# EAGLE library part 6270XX21621_62702421621 (library con-wurth-board-header)
WR-BHD 1.27 mm Male Box Header KIND PROPERTIES: Pitch 1.27 mm Gender:Male MATERIAL PROPERTIES: Insulator Material Nylon 9T Insulator Flammability Rating UL94 V-0 Insulator Color Black Contact Material Brass Contact Plating Gold over Nickel GENERAL INFORMATION: Operating Temperature -40 up to +105 °C Working Voltage 50 V (AC) Withstanding Voltage 500 V (AC) Contact Resistance 20 mΩ RISO 1000 MΩ CERTIFICATION: UL Approval E323964 <https://www.we-online.com/catalog/media/o375404v209%20Family_WR-BHD_6270xx21621.jpg> Details see: https://www.we-online.com/catalog/en/WR_BHD_1_27_MM_MALE_BOX_HEADER Created by Ella Wu 2021-08-24 2021 (C) Würth Elektronik
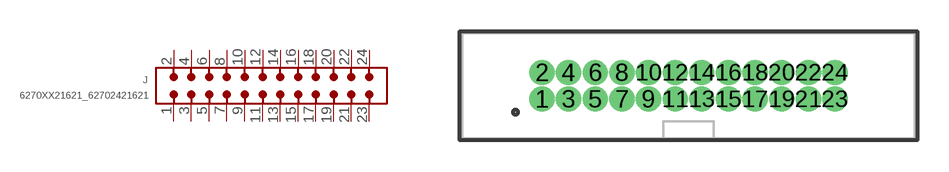
[diagram p207: symbol with the pads of 62702421621; footprint 62702421621]

Designator prefix J

## 6270XX21621_62702421621 (CONTACT-RESISTANCE: 20mOhm; DATASHEET-URL: https://www.we-online.com/redexpert/spec/62702421621?ae; GENDER: Male; IR: 1A; LENGTH: 21.59mm; MOUNT: THT; PART-NUMBER: 62702421621; PINS: 24; PITCH: 1.27mm; TYPE: Straight; VALUE: 62702421621; WORKING-VOLTAGE: 50V(AC))  [62702421621]
1  1  pas
2  2  pas
3  3  pas
4  4  pas
5  5  pas
6  6  pas
7  7  pas
8  8  pas
9  9  pas
10  10  pas
11  11  pas
12  12  pas
13  13  pas
14  14  pas
15  15  pas
16  16  pas
17  17  pas
18  18  pas
19  19  pas
20  20  pas
21  21  pas
22  22  pas
23  23  pas
24  24  pas

## Footprint 62702421621 (pad centres in mm)
WR-BHD 1.27mm Male THT Box Header Straight, 24Pins
drill 0.7 pad 1.05: 1 -6.985,-0.635; 2 -6.985,0.635; 3 -5.715,-0.635; 4 -5.715,0.635; 5 -4.445,-0.635; 6 -4.445,0.635; 7 -3.175,-0.635; 8 -3.175,0.635; 9 -1.905,-0.635; 10 -1.905,0.635; 11 -0.635,-0.635; 12 -0.635,0.635; 13 0.635,-0.635; 14 0.635,0.635; 15 1.905,-0.635; 16 1.905,0.635; 17 3.175,-0.635; 18 3.175,0.635; 19 4.445,-0.635; 20 4.445,0.635; 21 5.715,-0.635; 22 5.715,0.635; 23 6.985,-0.635; 24 6.985,0.635